# Altium footprint library Fuse.PcbLib: 1 footprints
Each footprint in its own frame and in the unit in brackets; x right, y up, seen from the top. Pads: shape width x height; smd on the part's side, far side on the other; paste and mask are expansions set on the pad; w line width, h text height; cw(c..) or ccw(c..) is an arc to the next point about the centre after c.
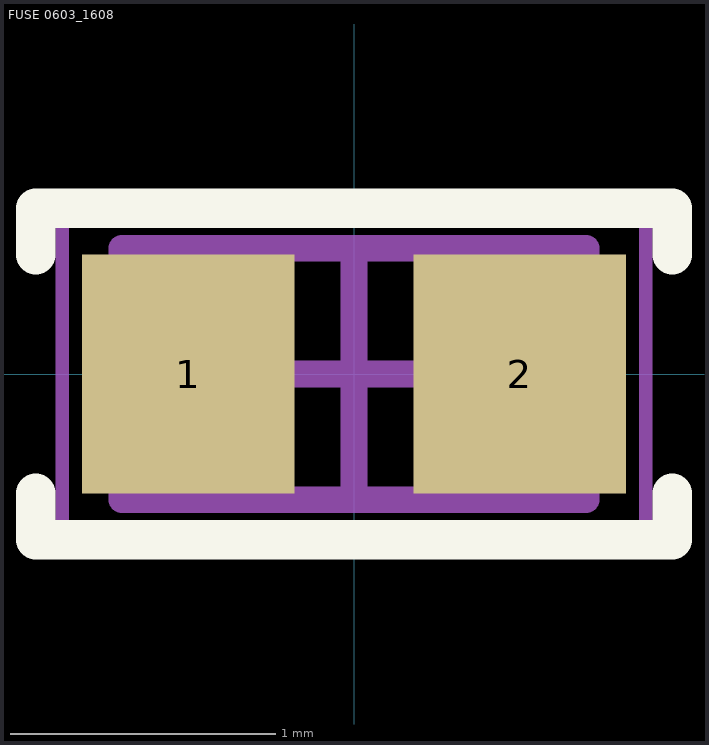
[diagram p0: the footprint, top view; thin cyan lines are the x and y axes]

## FUSE 0603_1608 [mm] "Chip Resistor, 2-Leads, Body 1.60x0.80mm, IPC High Density"
height 0.45
pads (2):
  rect 0.8x0.9 smd: 1(-0.625,0) 2(0.625,0)
Top Overlay:
  lines w0.15: -1.2,-0.45 -1.2,-0.625 1.2,-0.625 1.2,-0.45 ; -1.2,0.45 -1.2,0.625 1.2,0.625 1.2,0.45
Mechanical 13:
  lines w0.1: -0.875,-0.475 0.875,-0.475 0.875,0.475 -0.875,0.475 -0.875,-0.475
Mechanical 15:
  lines w0.05: -1.1,-0.6 1.1,-0.6 1.1,0.6 -1.1,0.6 -1.1,-0.6
  lines w0.1: -0.475,0 0.475,0 ; 0,-0.475 0,0.475
3D body "fuse_silicon_0603L.step": height 0.45, standoff 0, extent -0.9,-0.52 0.9,0.52